# Altium footprint library FTSH-105-01-L-DH (ARM Cortex Debug Horizontal).PcbLib: 1 footprints
Each footprint in its own frame and in the unit in brackets; x right, y up, seen from the top. Pads: shape width x height; smd on the part's side, far side on the other; paste and mask are expansions set on the pad; w line width, h text height; cw(c..) or ccw(c..) is an arc to the next point about the centre after c.
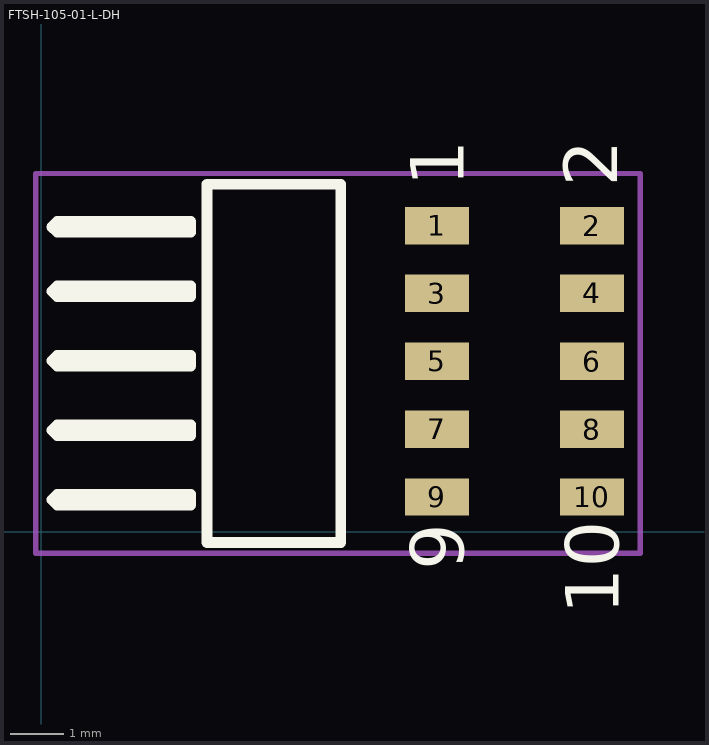
[diagram p0: the footprint, top view; thin cyan lines are the x and y axes]

## FTSH-105-01-L-DH [mm] "HEADER, 1.27MM, R/A, SMD, 10WAY"
height 3.43
pads (10):
  rect 1.2x0.7 smd: 1(7.4,5.725) 2(10.3,5.725) 3(7.4,4.456) 4(10.3,4.456) 5(7.4,3.187) 6(10.3,3.187) 7(7.4,1.919) 8(10.3,1.919) 9(7.4,0.65) 10(10.3,0.65)
Top Overlay:
  lines w0.2: 0.2,0.6 0.3,0.7 2.8,0.7 2.8,0.5 0.3,0.5 0.2,0.6 ; 0.2,1.9 0.3,2 2.8,2 2.8,1.8 0.3,1.8 0.2,1.9 ; 0.2,3.2 0.3,3.3 2.8,3.3 2.8,3.1 0.3,3.1 0.2,3.2 ; 0.2,4.5 0.3,4.6 2.8,4.6 2.8,4.4 0.3,4.4 0.2,4.5 ; 0.2,5.7 0.3,5.6 2.8,5.6 2.8,5.8 0.3,5.8 0.2,5.7 ; 3.1,-0.2 5.6,-0.2 5.6,6.5 3.1,6.5 3.1,-0.2
  text "1" at 7.9,6.45 h1
  text "2" at 10.775,6.45 h1
  text "9" at 7.9,-0.717 h1
  text "10" at 10.8,-1.55 h1
Mechanical 15:
  lines w0.1: -0.1,-0.4 -0.1,6.7 3.6,6.7 11.2,6.7 11.2,-0.4 -0.1,-0.4
3D body: height 3.43, standoff 0, extent 0,0 10.77,6.35